# Altium footprint library RFD900UX Module.PcbLib: 1 footprints
Each footprint in its own frame and in the unit in brackets; x right, y up, seen from the top. Pads: shape width x height; smd on the part's side, far side on the other; paste and mask are expansions set on the pad; w line width, h text height; cw(c..) or ccw(c..) is an arc to the next point about the centre after c.
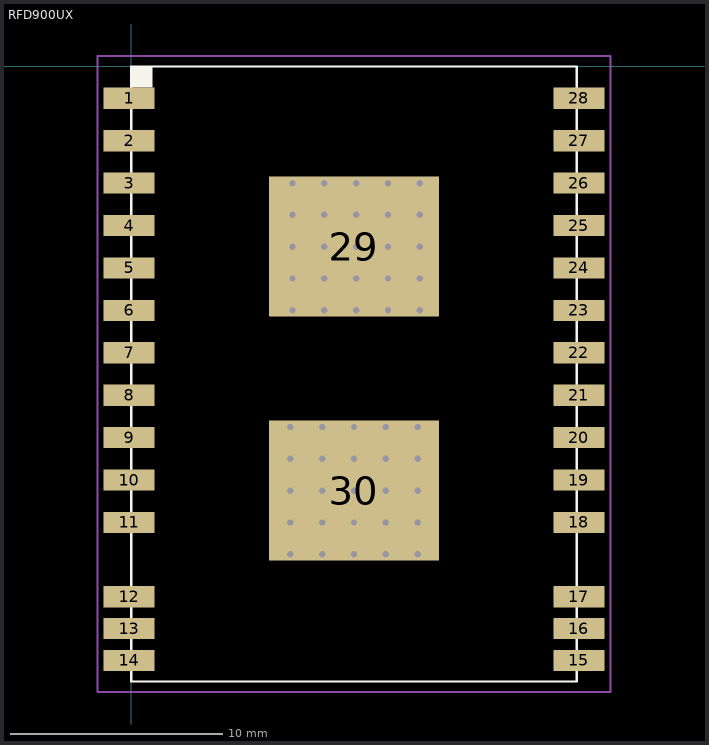
[diagram p0: the footprint, top view; thin cyan lines are the x and y axes]

## RFD900UX [mm] "footprint for 900UX Module"
height 4.5
pads (30):
  rect 2.4x1 smd: 1(-0.1,-1.5) 2(-0.1,-3.5) 3(-0.1,-5.5) 4(-0.1,-7.5) 5(-0.1,-9.5) 6(-0.1,-11.5) 7(-0.1,-13.5) 8(-0.1,-15.5) 9(-0.1,-17.5) 10(-0.1,-19.5) 11(-0.1,-21.5) 12(-0.1,-25) 13(-0.1,-26.5) 14(-0.1,-28) 15(21.1,-28) 16(21.1,-26.5) 17(21.1,-25) 18(21.1,-21.5) 19(21.1,-19.5) 20(21.1,-17.5) 21(21.1,-15.5) 22(21.1,-13.5) 23(21.1,-11.5) 24(21.1,-9.5) 25(21.1,-7.5) 26(21.1,-5.5) 27(21.1,-3.5) 28(21.1,-1.5)
  rect 8x6.6 smd paste-8: 29(10.5,-8.5) 30(10.5,-20)
via 13.5,-18.5 diameter 0.5 hole 0.3
via 12,-18.5 diameter 0.5 hole 0.3
via 10.5,-18.5 diameter 0.5 hole 0.3
via 9,-18.5 diameter 0.5 hole 0.3
via 7.5,-18.5 diameter 0.5 hole 0.3
via 7.5,-21.5 diameter 0.5 hole 0.3
via 9,-21.5 diameter 0.5 hole 0.3
via 13.5,-21.5 diameter 0.5 hole 0.3
via 12,-21.5 diameter 0.5 hole 0.3
via 10.5,-21.5 diameter 0.5 hole 0.3
via 7.5,-20 diameter 0.5 hole 0.3
via 9,-20 diameter 0.5 hole 0.3
via 13.5,-20 diameter 0.5 hole 0.3
via 12,-20 diameter 0.5 hole 0.3
via 10.5,-20 diameter 0.5 hole 0.3
via 13.5,-17 diameter 0.5 hole 0.3
via 12,-17 diameter 0.5 hole 0.3
via 10.5,-17 diameter 0.5 hole 0.3
via 9,-17 diameter 0.5 hole 0.3
via 7.5,-17 diameter 0.5 hole 0.3
via 7.5,-23 diameter 0.5 hole 0.3
via 9,-23 diameter 0.5 hole 0.3
via 10.5,-23 diameter 0.5 hole 0.3
via 12,-23 diameter 0.5 hole 0.3
via 13.5,-23 diameter 0.5 hole 0.3
via 13.6,-11.5 diameter 0.5 hole 0.3
via 12.1,-11.5 diameter 0.5 hole 0.3
via 10.6,-11.5 diameter 0.5 hole 0.3
via 9.1,-11.5 diameter 0.5 hole 0.3
via 7.6,-11.5 diameter 0.5 hole 0.3
via 7.6,-5.5 diameter 0.5 hole 0.3
via 9.1,-5.5 diameter 0.5 hole 0.3
via 10.6,-5.5 diameter 0.5 hole 0.3
via 12.1,-5.5 diameter 0.5 hole 0.3
via 13.6,-5.5 diameter 0.5 hole 0.3
via 10.6,-8.5 diameter 0.5 hole 0.3
via 12.1,-8.5 diameter 0.5 hole 0.3
via 13.6,-8.5 diameter 0.5 hole 0.3
via 9.1,-8.5 diameter 0.5 hole 0.3
via 7.6,-8.5 diameter 0.5 hole 0.3
via 10.6,-10 diameter 0.5 hole 0.3
via 12.1,-10 diameter 0.5 hole 0.3
via 13.6,-10 diameter 0.5 hole 0.3
via 9.1,-10 diameter 0.5 hole 0.3
via 7.6,-10 diameter 0.5 hole 0.3
via 7.6,-7 diameter 0.5 hole 0.3
via 9.1,-7 diameter 0.5 hole 0.3
via 10.6,-7 diameter 0.5 hole 0.3
via 12.1,-7 diameter 0.5 hole 0.3
via 13.6,-7 diameter 0.5 hole 0.3
Top Overlay:
  rectangle: 0,-1 1,0
  lines w0.1: 0,-29 21,-29 21,0 0,0 0,-29
Top Paste:
  rectangle: 7,-8.25 10.25,-5.5
  rectangle: 10.75,-8.25 14,-5.5
  rectangle: 10.75,-11.5 14,-8.75
  rectangle: 7,-11.5 10.25,-8.75
  rectangle: 7,-23 10.25,-20.25
  rectangle: 10.75,-23 14,-20.25
  rectangle: 10.75,-19.75 14,-17
  rectangle: 7,-19.75 10.25,-17
Mechanical 2:
  lines w0.1: -1.6,-29.5 -1.6,0.5 22.6,0.5 22.6,-29.5 -1.6,-29.5